# Altium footprint library WP-PLUG.PcbLib: 2 footprints
Each footprint in its own frame and in the unit in brackets; x right, y up, seen from the top. Pads: shape width x height; smd on the part's side, far side on the other; paste and mask are expansions set on the pad; w line width, h text height; cw(c..) or ccw(c..) is an arc to the next point about the centre after c.
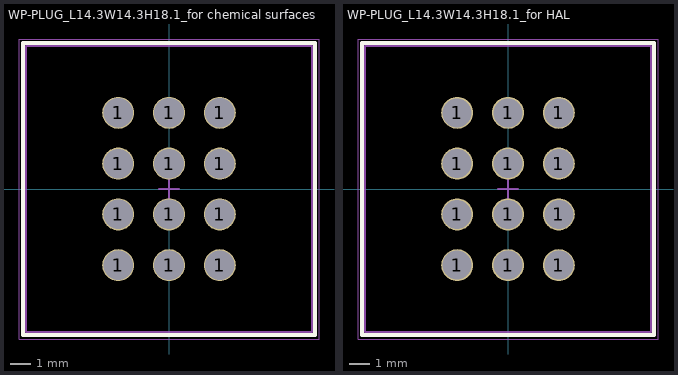
[diagram p0: the footprints below, top view; thin cyan lines are the x and y axes]

## WP-PLUG_L14.3W14.3H18.1_for chemical surfaces [mm] "Direct Plug Terminal, body 14.3x14.3mm, 12pins"
height 18.1
pads (12):
  round 1.6 hole 1.475: 1(-2.54,-3.81) 1(-2.54,-1.27) 1(-2.54,1.27) 1(-2.54,3.81) 1(0,-3.81) 1(0,-1.27) 1(0,1.27) 1(0,3.81) 1(2.54,-3.81) 1(2.54,-1.27) 1(2.54,1.27) 1(2.54,3.81)
Top Overlay:
  lines w0.2: -7.3,-7.3 7.3,-7.3 7.3,7.3 -7.3,7.3 -7.3,-7.3
Top Assembly:
  lines w0.1: -7.15,-7.15 -7.15,7.15 7.15,7.15 7.15,-7.15 -7.15,-7.15
Top Designator:
  text ".Designator" at -3.647,-0.357 h1
Top 3D Body:
  lines w0.1: -7.15,-7.15 -7.15,7.15 7.15,7.15 7.15,-7.15 -7.15,-7.15
Top Courtyard:
  lines w0.05: -7.5,-7.5 -7.5,7.5 7.5,7.5 7.5,-7.5 -7.5,-7.5
Top Component Center:
  lines w0.1: -0.5,0 0.5,0 ; 0,-0.5 0,0.5
3D body "7464000 (rev1).stp": height 18.1, standoff -3.5, extent -7.385,-7.385 7.385,7.385

## WP-PLUG_L14.3W14.3H18.1_for HAL [mm] "Direct Plug Terminal, body 14.3x14.3mm, 12pins"
height 18.1
pads (12):
  round 1.6 hole 1.45: 1(-2.54,-3.81) 1(-2.54,-1.27) 1(-2.54,1.27) 1(-2.54,3.81) 1(0,-3.81) 1(0,-1.27) 1(0,1.27) 1(0,3.81) 1(2.54,-3.81) 1(2.54,-1.27) 1(2.54,1.27) 1(2.54,3.81)
Top Overlay:
  lines w0.2: -7.3,-7.3 -7.3,7.3 7.3,7.3 7.3,-7.3 -7.3,-7.3
Top Assembly:
  lines w0.1: -7.15,-7.15 7.15,-7.15 7.15,7.15 -7.15,7.15 -7.15,-7.15
Top Designator:
  text ".Designator" at -3.647,-0.357 h1
Top 3D Body:
  lines w0.1: -7.15,-7.15 7.15,-7.15 7.15,7.15 -7.15,7.15 -7.15,-7.15
Top Courtyard:
  lines w0.05: -7.5,-7.5 7.5,-7.5 7.5,7.5 -7.5,7.5 -7.5,-7.5
Top Component Center:
  lines w0.1: -0.5,0 0.5,0 ; 0,-0.5 0,0.5
3D body "7464000 (rev1).stp": height 18.1, standoff -3.5, extent -7.385,-7.385 7.385,7.385